# EAGLE library part MAX6070AAUT25T (library MAX6070AAUT25T)
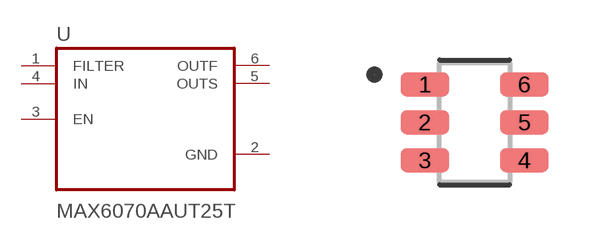
[diagram p0: symbol with the pads of SOT95P280X145-6N; footprint SOT95P280X145-6N]

Designator prefix U

## MAX6070AAUT25T (Availability: Unavailable; Description: Series Voltage Reference IC ±0.04% SOT-23-6; MF: Maxim Integrated; MP: MAX6070AAUT25+; Package: SOT-6 Maxim; Price: None)  [SOT95P280X145-6N]
1  FILTER  in
2  GND  pwr
3  EN
4  IN  in
5  OUTS  out
6  OUTF  out

## Footprint SOT95P280X145-6N (pad centres in mm)
smd 1.22 x 0.6: 1 -1.245,0.95; 2 -1.245,0; 3 -1.245,-0.95; 4 1.245,-0.95; 5 1.245,0; 6 1.245,0.95